# Altium footprint library PCB - CONNECTOR - WURTH - WURTH 691322110004.PcbLib: 1 footprints
Each footprint in its own frame and in the unit in brackets; x right, y up, seen from the top. Pads: shape width x height; smd on the part's side, far side on the other; paste and mask are expansions set on the pad; w line width, h text height; cw(c..) or ccw(c..) is an arc to the next point about the centre after c.
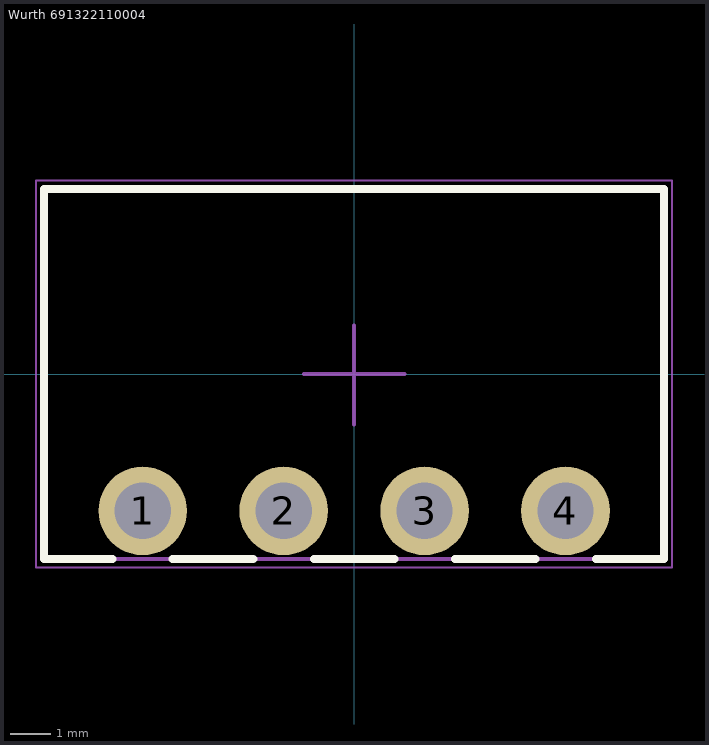
[diagram p0: the footprint, top view; thin cyan lines are the x and y axes]

## Wurth 691322110004 [mm] "4 Position Terminal Block Header, Male Pins, 3.5mm Pitch,15.4x9.2mm Body, 90°, Right Angle, THT"
height 7.4
pads (4):
  round 2.2 hole 1.4: 1(-5.25,-3.4) 2(-1.75,-3.4) 3(1.75,-3.4) 4(5.25,-3.4)
Top Overlay:
  lines w0.2: -6.005,-4.6 -7.7,-4.6 -7.7,4.6 7.7,4.6 7.7,-4.6 6.005,-4.6 ; -4.505,-4.6 -2.505,-4.6 ; -1,-4.6 1,-4.6 ; 2.505,-4.6 4.505,-4.6
Mechanical 13:
  lines w0.1: -7.7,-4.6 -7.7,4.6 7.7,4.6 7.7,-4.6 -7.7,-4.6
Mechanical 15 (Mech15):
  lines w0.05: -7.905,-4.8 -7.905,4.8 7.9,4.8 7.9,-4.8 -7.905,-4.8
  lines w0.1: -1.25,0 0,0 ; 0,-1.25 0,0 ; 0,1.2 0,0 ; 1.25,0 0,0
3D body "Würth Elektronik - 691322110004 v1.step": height 7.2, standoff -3.5, extent -7.7,-4.6 7.7,4.6